# EAGLE library part CASSPORT (library crasbe)
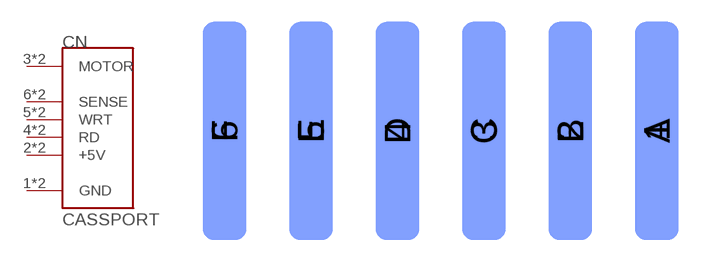
[diagram p17: symbol with the pads of CASSPORT; footprint CASSPORT]

Designator prefix CN

## CASSPORT  [CASSPORT]
1  GND  pwr
2  +5V  pwr
3  MOTOR  pwr
4  RD
5  WRT
6  SENSE
A  GND  pwr
B  +5V  pwr
C  MOTOR  pwr
D  RD
E  WRT
F  SENSE

## Footprint CASSPORT (pad centres in mm)
smd 2 x 10: 1 10.35,3.96; 2 6.39,3.96; 3 2.43,3.96; 4 -1.53,3.96; 5 -5.49,3.96; 6 -9.45,3.96
smd 2 x 10 bottom: A 10.35,3.96; B 6.39,3.96; C 2.43,3.96; D -1.53,3.96; E -5.49,3.96; F -9.45,3.96